# Altium footprint library ADAFRUIT_QT_PY.PCBLIB: 1 footprints
Each footprint in its own frame and in the unit in brackets; x right, y up, seen from the top. Pads: shape width x height; smd on the part's side, far side on the other; paste and mask are expansions set on the pad; w line width, h text height; cw(c..) or ccw(c..) is an arc to the next point about the centre after c.
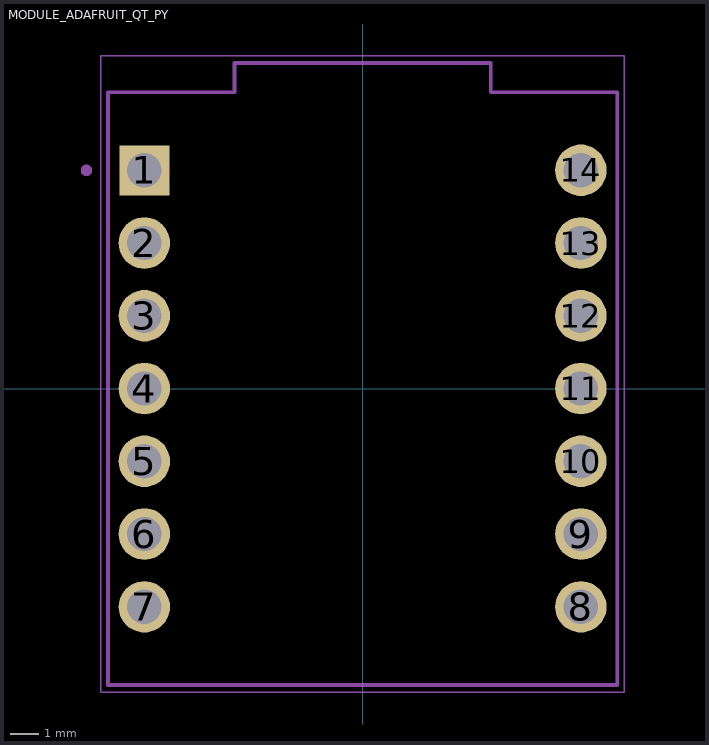
[diagram p0: the footprint, top view; thin cyan lines are the x and y axes]

## MODULE_ADAFRUIT_QT_PY [mil]
pads (14):
  rect 68.62x68.62 / inner rect 60x60 / far side rect 68.62x68.62 hole 47.24: 1(-300,300)
  round 70.87 / inner round 60 / far side round 70.87 hole 47.24: 2(-300,200) 3(-300,100) 4(-300,0) 5(-300,-100) 6(-300,-200) 7(-300,-300) 8(300,-300) 9(300,-200) 10(300,-100) 11(300,0) 12(300,100) 13(300,200) 14(300,300)
Assembly Top:
  circle w7.87: c-379.53,300 r3.94
  lines w5: -350,-407.5 -350,407.5 -175.98,407.5 -175.98,447.5 175.98,447.5 175.98,407.5 350,407.5 350,-407.5 -350,-407.5
Mechanical 22:
  circle w7.87: c-379.53,300 r3.94
  lines w5: -350,-407.5 -350,407.5 -175.98,407.5 -175.98,447.5 175.98,447.5 175.98,407.5 350,407.5 350,-407.5 -350,-407.5
Mechanical 30:
  lines w1.97: -359.84,-417.34 -359.84,457.34 359.84,457.34 359.84,-417.34 -359.84,-417.34